# Altium schematic symbol library AliPadash.SchLib: 1117 symbols (part 6 of 6)

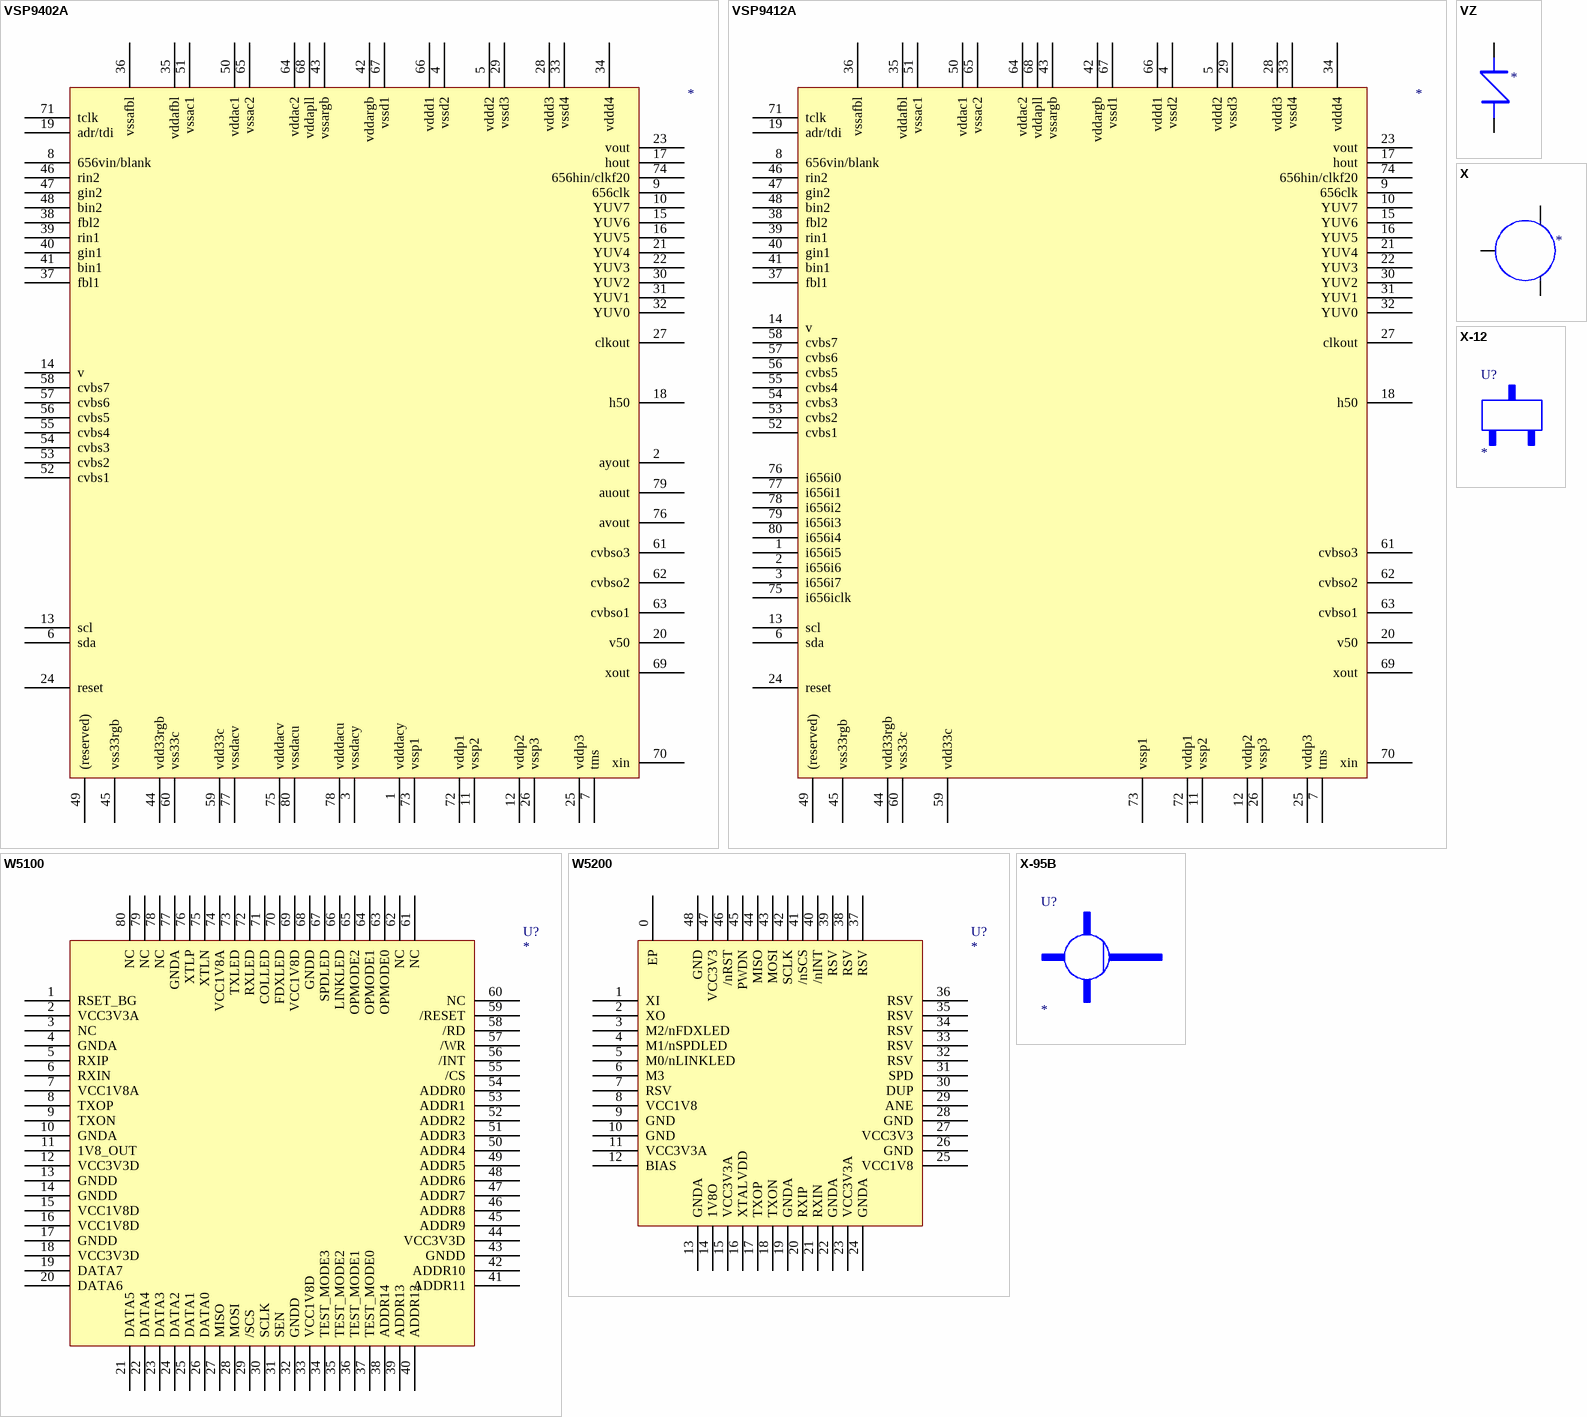
[diagram p81: symbols VSP9402A to X-95B]

## VSP9402A
designator ?
U?
footprint P-MQFP-80
pins: 1 vdddacy, 2 ayout, 3 vssdacy, 4 vssd2, 5 vddd2, 6 sda, 7 tms, 8 656vin/blank, 9 656clk, 10 YUV7, 11 vssp2, 12 vddp2, 13 scl, 14 v, 15 YUV6, 16 YUV5, 17 hout, 18 h50, 19 adr/tdi, 20 v50, 21 YUV4, 22 YUV3, 23 vout, 24 reset, 25 vddp3, 26 vssp3, 27 clkout, 28 vddd3, 29 vssd3, 30 YUV2, 31 YUV1, 32 YUV0, 33 vssd4, 34 vddd4, 35 vddafbl, 36 vssafbl, 37 fbl1, 38 fbl2, 39 rin1, 40 gin1, 41 bin1, 42 vddargb, 43 vssargb, 44 vdd33rgb, 45 vss33rgb, 46 rin2, 47 gin2, 48 bin2, 49 (reserved), 50 vddac1, 51 vssac1, 52 cvbs1, 53 cvbs2, 54 cvbs3, 55 cvbs4, 56 cvbs5, 57 cvbs6, 58 cvbs7, 59 vdd33c, 60 vss33c, 61 cvbso3, 62 cvbso2, 63 cvbso1, 64 vddac2, 65 vssac2, 66 vddd1, 67 vssd1, 68 vddapll, 69 xout, 70 xin, 71 tclk, 72 vddp1, 73 vssp1, 74 656hin/clkf20, 75 vdddacv, 76 avout, 77 vssdacv, 78 vdddacu, 79 auout, 80 vssdacu

## VSP9412A
designator ?
pins: 1 i656i5, 2 i656i6, 3 i656i7, 4 vssd2, 5 vddd2, 6 sda, 7 tms, 8 656vin/blank, 9 656clk, 10 YUV7, 11 vssp2, 12 vddp2, 13 scl, 14 v, 15 YUV6, 16 YUV5, 17 hout, 18 h50, 19 adr/tdi, 20 v50, 21 YUV4, 22 YUV3, 23 vout, 24 reset, 25 vddp3, 26 vssp3, 27 clkout, 28 vddd3, 29 vssd3, 30 YUV2, 31 YUV1, 32 YUV0, 33 vssd4, 34 vddd4, 35 vddafbl, 36 vssafbl, 37 fbl1, 38 fbl2, 39 rin1, 40 gin1, 41 bin1, 42 vddargb, 43 vssargb, 44 vdd33rgb, 45 vss33rgb, 46 rin2, 47 gin2, 48 bin2, 49 (reserved), 50 vddac1, 51 vssac1, 52 cvbs1, 53 cvbs2, 54 cvbs3, 55 cvbs4, 56 cvbs5, 57 cvbs6, 58 cvbs7, 59 vdd33c, 60 vss33c, 61 cvbso3, 62 cvbso2, 63 cvbso1, 64 vddac2, 65 vssac2, 66 vddd1, 67 vssd1, 68 vddapll, 69 xout, 70 xin, 71 tclk, 72 vddp1, 73 vssp1, 74 656hin/clkf20, 75 i656iclk, 76 i656i0, 77 i656i1, 78 i656i2, 79 i656i3, 80 i656i4

## VZ
designator ?
pins: A, K

## W5100
designator U?
footprint QFP80
pins: 1 RSET_BG, 2 VCC3V3A, 3 NC, 4 GNDA, 5 RXIP, 6 RXIN, 7 VCC1V8A, 8 TXOP, 9 TXON, 10 GNDA, 11 1V8_OUT, 12 VCC3V3D, 13 GNDD, 14 GNDD, 15 VCC1V8D, 16 VCC1V8D, 17 GNDD, 18 VCC3V3D, 19 DATA7, 20 DATA6, 21 DATA5, 22 DATA4, 23 DATA3, 24 DATA2, 25 DATA1, 26 DATA0, 27 MISO, 28 MOSI, 29 /SCS, 30 SCLK, 31 SEN, 32 GNDD, 33 VCC1V8D, 34 TEST_MODE3, 35 TEST_MODE2, 36 TEST_MODE1, 37 TEST_MODE0, 38 ADDR14, 39 ADDR13, 40 ADDR12, 41 ADDR11, 42 ADDR10, 43 GNDD, 44 VCC3V3D, 45 ADDR9, 46 ADDR8, 47 ADDR7, 48 ADDR6, 49 ADDR5, 50 ADDR4, 51 ADDR3, 52 ADDR2, 53 ADDR1, 54 ADDR0, 55 /CS, 56 /INT, 57 /WR, 58 /RD, 59 /RESET, 60 NC, 61 NC, 62 NC, 63 OPMODE0, 64 OPMODE1, 65 OPMODE2, 66 LINKLED, 67 SPDLED, 68 GNDD, 69 VCC1V8D, 70 FDXLED, 71 COLLED, 72 RXLED, 73 TXLED, 74 VCC1V8A, 75 XTLN, 76 XTLP, 77 GNDA, 78 NC, 79 NC, 80 NC

## W5200
designator U?
footprint QFN48
pins: 0 EP, 1 XI, 2 XO, 3 M2/nFDXLED, 4 M1/nSPDLED, 5 M0/nLINKLED, 6 M3, 7 RSV, 8 VCC1V8, 9 GND, 10 GND, 11 VCC3V3A, 12 BIAS, 13 GNDA, 14 1V8O, 15 VCC3V3A, 16 XTALVDD, 17 TXOP, 18 TXON, 19 GNDA, 20 RXIP, 21 RXIN, 22 GNDA, 23 VCC3V3A, 24 GNDA, 25 VCC1V8, 26 GND, 27 VCC3V3, 28 GND, 29 ANE, 30 DUP, 31 SPD, 32 RSV, 33 RSV, 34 RSV, 35 RSV, 36 RSV, 37 RSV, 38 RSV, 39 RSV, 40 /nINT, 41 /nSCS, 42 SCLK, 43 MOSI, 44 MISO, 45 PWDN, 46 /nRST, 47 VCC3V3, 48 GND

## X
designator ?
pins: B, C, E

## X-12
designator U?

## X-95B
designator U?

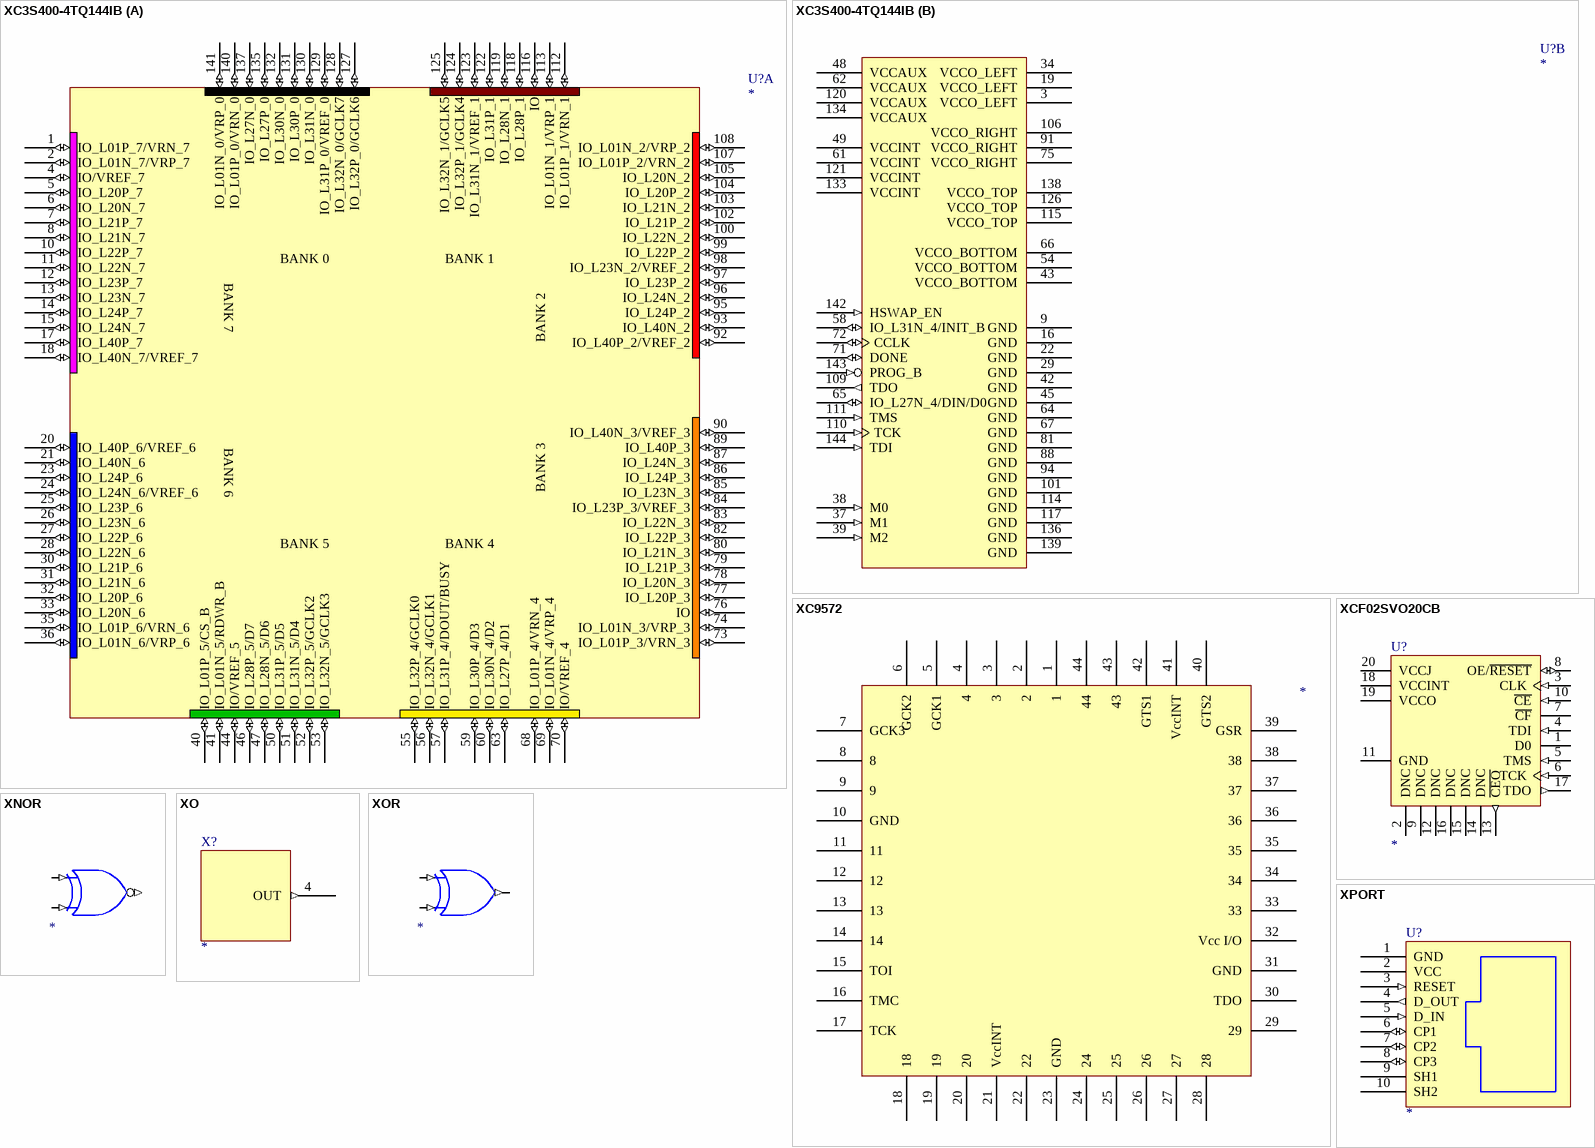
[diagram p82: symbols XC3S400-4TQ144IB to XPORT]

## XC3S400-4TQ144IB
designator U?
Spartan-3 1.2V FPGA, 97 User I/Os, 144-pin TQFP, Standard Performance, Industrial Grade; Published: *; DatasheetDocument: *; PackageDocument: *; PackageReference: *; Publisher: *; Code_JEDEC: *; Code_IPC: *
footprint TQ144
part A pins: 1 IO_L01P_7/VRN_7 (io), 2 IO_L01N_7/VRP_7 (io), 4 IO/VREF_7 (io), 5 IO_L20P_7 (io), 6 IO_L20N_7 (io), 7 IO_L21P_7 (io), 8 IO_L21N_7 (io), 10 IO_L22P_7 (io), 11 IO_L22N_7 (io), 12 IO_L23P_7 (io), 13 IO_L23N_7 (io), 14 IO_L24P_7 (io), 15 IO_L24N_7 (io), 17 IO_L40P_7 (io), 18 IO_L40N_7/VREF_7 (io), 20 IO_L40P_6/VREF_6 (io), 21 IO_L40N_6 (io), 23 IO_L24P_6 (io), 24 IO_L24N_6/VREF_6 (io), 25 IO_L23P_6 (io), 26 IO_L23N_6 (io), 27 IO_L22P_6 (io), 28 IO_L22N_6 (io), 30 IO_L21P_6 (io), 31 IO_L21N_6 (io), 32 IO_L20P_6 (io), 33 IO_L20N_6 (io), 35 IO_L01P_6/VRN_6 (io), 36 IO_L01N_6/VRP_6 (io), 40 IO_L01P_5/CS_B (io), 41 IO_L01N_5/RDWR_B (io), 44 IO/VREF_5 (io), 46 IO_L28P_5/D7 (io), 47 IO_L28N_5/D6 (io), 50 IO_L31P_5/D5 (io), 51 IO_L31N_5/D4 (io), 52 IO_L32P_5/GCLK2 (io), 53 IO_L32N_5/GCLK3 (io), 55 IO_L32P_4/GCLK0 (io), 56 IO_L32N_4/GCLK1 (io), 57 IO_L31P_4/DOUT/BUSY (io), 59 IO_L30P_4/D3 (io), 60 IO_L30N_4/D2 (io), 63 IO_L27P_4/D1 (io), 68 IO_L01P_4/VRN_4 (io), 69 IO_L01N_4/VRP_4 (io), 70 IO/VREF_4 (io), 73 IO_L01P_3/VRN_3 (io), 74 IO_L01N_3/VRP_3 (io), 76 IO (io), 77 IO_L20P_3 (io), 78 IO_L20N_3 (io), 79 IO_L21P_3 (io), 80 IO_L21N_3 (io), 82 IO_L22P_3 (io), 83 IO_L22N_3 (io), 84 IO_L23P_3/VREF_3 (io), 85 IO_L23N_3 (io), 86 IO_L24P_3 (io), 87 IO_L24N_3 (io), 89 IO_L40P_3 (io), 90 IO_L40N_3/VREF_3 (io), 92 IO_L40P_2/VREF_2 (io), 93 IO_L40N_2 (io), 95 IO_L24P_2 (io), 96 IO_L24N_2 (io), 97 IO_L23P_2 (io), 98 IO_L23N_2/VREF_2 (io), 99 IO_L22P_2 (io), 100 IO_L22N_2 (io), 102 IO_L21P_2 (io), 103 IO_L21N_2 (io), 104 IO_L20P_2 (io), 105 IO_L20N_2 (io), 107 IO_L01P_2/VRN_2 (io), 108 IO_L01N_2/VRP_2 (io), 112 IO_L01P_1/VRN_1 (io), 113 IO_L01N_1/VRP_1 (io), 116 IO (io), 118 IO_L28P_1 (io), 119 IO_L28N_1 (io), 122 IO_L31P_1 (io), 123 IO_L31N_1/VREF_1 (io), 124 IO_L32P_1/GCLK4 (io), 125 IO_L32N_1/GCLK5 (io), 127 IO_L32P_0/GCLK6 (io), 128 IO_L32N_0/GCLK7 (io), 129 IO_L31P_0/VREF_0 (io), 130 IO_L31N_0 (io), 131 IO_L30P_0 (io), 132 IO_L30N_0 (io), 135 IO_L27P_0 (io), 137 IO_L27N_0 (io), 140 IO_L01P_0/VRN_0 (io), 141 IO_L01N_0/VRP_0 (io)
part B pins: 3 VCCO_LEFT (power), 9 GND (power), 16 GND (power), 19 VCCO_LEFT (power), 22 GND (power), 29 GND (power), 34 VCCO_LEFT (power), 37 M1 (in), 38 M0 (in), 39 M2 (in), 42 GND (power), 43 VCCO_BOTTOM (power), 45 GND (power), 48 VCCAUX (power), 49 VCCINT (power), 54 VCCO_BOTTOM (power), 58 IO_L31N_4/INIT_B (io), 61 VCCINT (power), 62 VCCAUX (power), 64 GND (power), 65 IO_L27N_4/DIN/D0 (io), 66 VCCO_BOTTOM (power), 67 GND (power), 71 DONE (io), 72 CCLK (io), 75 VCCO_RIGHT (power), 81 GND (power), 88 GND (power), 91 VCCO_RIGHT (power), 94 GND (power), 101 GND (power), 106 VCCO_RIGHT (power), 109 TDO (out), 110 TCK (in), 111 TMS (in), 114 GND (power), 115 VCCO_TOP (power), 117 GND (power), 120 VCCAUX (power), 121 VCCINT (power), 126 VCCO_TOP (power), 133 VCCINT (power), 134 VCCAUX (power), 136 GND (power), 138 VCCO_TOP (power), 139 GND (power), 142 HSWAP_EN (in), 143 PROG_B (in), 144 TDI (in)
2 alternate drawings of the same symbol
part A text: BANK 0; BANK 1; BANK 7; BANK 2; BANK 6; BANK 3; BANK 5; BANK 4

## XC9572
designator ?
pins: 1, 2, 3, 4, 5 GCK1, 6 GCK2, 7 GCK3, 8, 9, 10 GND, 11, 12, 13, 14, 15 TOI, 16 TMC, 17 TCK, 18, 19, 20, 21 VccINT, 22, 23 GND, 24, 25, 26, 27, 28, 29, 30 TDO, 31 GND, 32 Vcc I/O, 33, 34, 35, 36, 37, 38, 39 GSR, 40 GTS2, 41 VccINT, 42 GTS1, 43, 44

## XCF02SVO20CB
designator U?
XCF00S Series, Platform Flash In-System Programmable Configuration 3.3V PROM, 20-Pin TSOP, 2-Megabit, Commercial Grade; Published: *; DatasheetDocument: *; PackageDocument: *; PackageReference: *; Publisher: *; Code_JEDEC: *
footprint VO20
pins: 1 D0 (hiz), 2 DNC, 3 CLK (in), 4 TDI (in), 5 TMS (in), 6 TCK (in), 7 ~{CF} (oc), 8 OE/~{RESET} (io), 9 DNC, 10 ~{CE} (in), 11 GND (power), 12 DNC, 13 ~{CEO} (out), 14 DNC, 15 DNC, 16 DNC, 17 TDO (out), 18 VCCINT (power), 19 VCCO (power), 20 VCCJ (power)
2 alternate drawings of the same symbol

## XNOR
designator ?
pins: 1 (in), 2 (in), 3 (out)

## XO
designator X?
pins: 4 OUT (out), 7 GND (power) hidden to GND, 14 VCC (power) hidden to VCC

## XOR
designator ?
pins: 1 (in), 2 (in), 3 (out)

## XPORT
designator U?
footprint XPORT
pins: 1 GND (power), 2 VCC (power), 3 RESET (in), 4 D_OUT (out), 5 D_IN (in), 6 CP1 (io), 7 CP2 (io), 8 CP3 (io), 9 SH1, 10 SH2

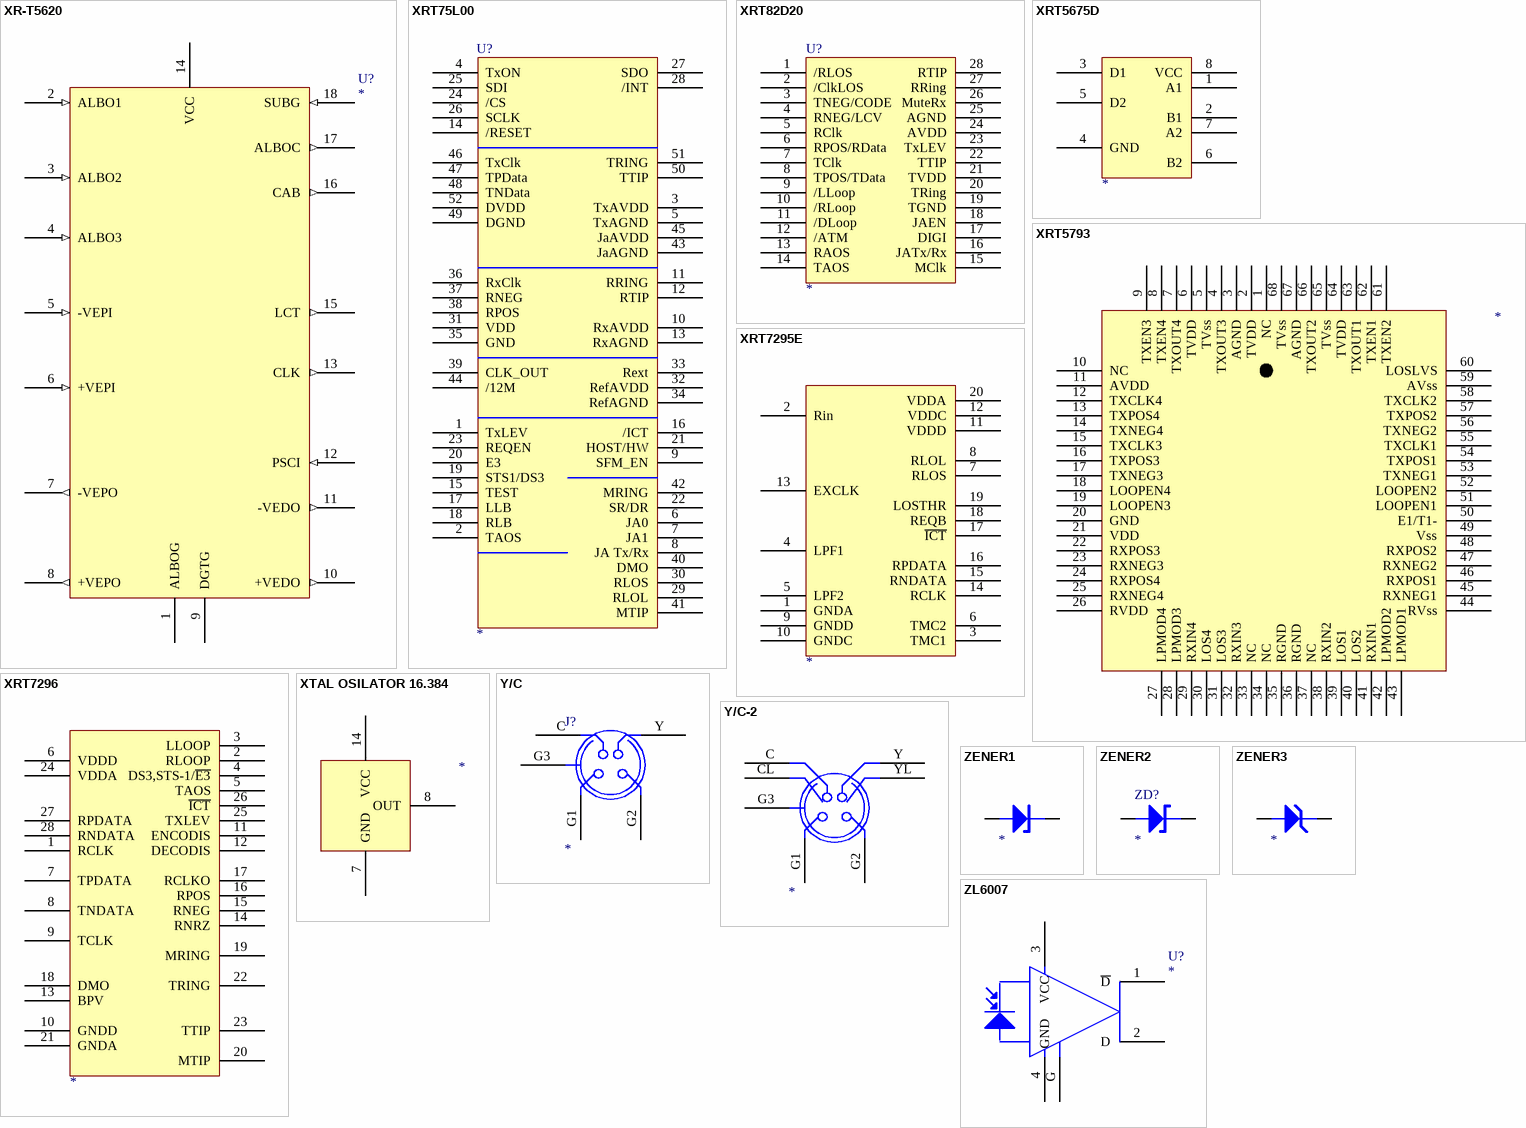
[diagram p83: symbols XR-T5620 to ZL6007]

## XR-T5620
designator U?
pins: 1 ALBOG, 2 ALBO1 (in), 3 ALBO2 (in), 4 ALBO3 (in), 5 -VEPI (in), 6 +VEPI (in), 7 -VEPO (out), 8 +VEPO (out), 9 DGTG, 10 +VEDO (out), 11 -VEDO (out), 12 PSCI (in), 13 CLK (out), 14 VCC, 15 LCT (out), 16 CAB (out), 17 ALBOC (out), 18 SUBG (in)

## XRT75L00
designator U?
footprint TQFP52
pins: 1 TxLEV, 2 TAOS, 3 TxAVDD, 4 TxON, 5 TxAGND, 6 JA0, 7 JA1, 8 JA Tx/Rx, 9 SFM_EN, 10 RxAVDD, 11 RRING, 12 RTIP, 13 RxAGND, 14 /RESET, 15 TEST, 16 /ICT, 17 LLB, 18 RLB, 19 STS1/DS3, 20 E3, 21 HOST/HW, 22 SR/DR, 23 REQEN, 24 /CS, 25 SDI, 26 SCLK, 27 SDO, 28 /INT, 29 RLOL, 30 RLOS, 31 VDD, 32 RefAVDD, 33 Rext, 34 RefAGND, 35 GND, 36 RxClk, 37 RNEG, 38 RPOS, 39 CLK_OUT, 40 DMO, 41 MTIP, 42 MRING, 43 JaAGND, 44 /12M, 45 JaAVDD, 46 TxClk, 47 TPData, 48 TNData, 49 DGND, 50 TTIP, 51 TRING, 52 DVDD

## XRT82D20
designator U?
footprint JEDEC-SOJ28
pins: 1 /RLOS, 2 /ClkLOS, 3 TNEG/CODE, 4 RNEG/LCV, 5 RClk, 6 RPOS/RData, 7 TClk, 8 TPOS/TData, 9 /LLoop, 10 /RLoop, 11 /DLoop, 12 /ATM, 13 RAOS, 14 TAOS, 15 MClk, 16 JATx/Rx, 17 DIGI, 18 JAEN, 19 TGND, 20 TRing, 21 TVDD, 22 TTIP, 23 TxLEV, 24 AVDD, 25 AGND, 26 MuteRx, 27 RRing, 28 RTIP

## XRT5675D
designator ?
U?
pins: 1 A1, 2 B1, 3 D1, 4 GND (power), 5 D2, 6 B2, 7 A2, 8 VCC (power)

## XRT5793
designator ?
pins: 1 NC, 2 TVDD (power), 3 AGND (power), 4 TXOUT3, 5 TVss (power), 6 TVDD (power), 7 TXOUT4, 8 TXEN4, 9 TXEN3, 10 NC, 11 AVDD (power), 12 TXCLK4, 13 TXPOS4, 14 TXNEG4, 15 TXCLK3, 16 TXPOS3, 17 TXNEG3, 18 LOOPEN4, 19 LOOPEN3, 20 GND (power), 21 VDD (power), 22 RXPOS3, 23 RXNEG3, 24 RXPOS4, 25 RXNEG4, 26 RVDD (power), 27 LPMOD4, 28 LPMOD3, 29 RXIN4, 30 LOS4, 31 LOS3, 32 RXIN3, 33 NC, 34 NC, 35 RGND (power), 36 RGND (power), 37 NC, 38 RXIN2, 39 LOS1, 40 LOS2, 41 RXIN1, 42 LPMOD2, 43 LPMOD1, 44 RVss (power), 45 RXNEG1, 46 RXPOS1, 47 RXNEG2, 48 RXPOS2, 49 Vss (power), 50 E1/T1-, 51 LOOPEN1, 52 LOOPEN2, 53 TXNEG1, 54 TXPOS1, 55 TXCLK1, 56 TXNEG2, 57 TXPOS2, 58 TXCLK2, 59 AVss (power), 60 LOSLVS, 61 TXEN2, 62 TXEN1, 63 TXOUT1, 64 TVDD (power), 65 TVss (power), 66 TXOUT2, 67 AGND (power), 68 TVss (power)

## XRT7295E
designator ?
U?
footprint SOJ-16
pins: 1 GNDA (power), 2 Rin, 3 TMC1, 4 LPF1, 5 LPF2, 6 TMC2, 7 RLOS, 8 RLOL, 9 GNDD (power), 10 GNDC (power), 11 VDDD (power), 12 VDDC (power), 13 EXCLK, 14 RCLK, 15 RNDATA, 16 RPDATA, 17 ~{ICT}, 18 REQB, 19 LOSTHR, 20 VDDA (power)

## XRT7296
designator ?
U?
footprint SOJ-28
pins: 1 RCLK, 2 RLOOP, 3 LLOOP, 4 DS3,STS-1/~{E3}, 5 TAOS, 6 VDDD, 7 TPDATA, 8 TNDATA, 9 TCLK, 10 GNDD, 11 ENCODIS, 12 DECODIS, 13 BPV, 14 RNRZ, 15 RNEG, 16 RPOS, 17 RCLKO, 18 DMO, 19 MRING, 20 MTIP, 21 GNDA, 22 TRING, 23 TTIP, 24 VDDA, 25 TXLEV, 26 ~{ICT}, 27 RPDATA, 28 RNDATA

## XTAL OSILATOR 16.384
designator ?
pins: 7 GND, 8 OUT, 14 VCC

## Y/C
designator J?
footprint Y/C
pins: C, G1, G2, G3, Y

## Y/C-2
designator ?
pins: C, CL, G1, G2, G3, Y, YL

## ZENER1
designator ?
pins: A, K

## ZENER2
designator ZD?
footprint DIODE0.3
footprint DIODE0.4
pins: A, K

## ZENER3
designator ?
pins: A, K

## ZL6007
designator U?
footprint LDHP2
pins: 1 ~{D}, 2 D, 3 VCC, 4 GND, G